# Altium footprint library CL05A475MO5NUNC.PcbLib: 1 footprints
Each footprint in its own frame and in the unit in brackets; x right, y up, seen from the top. Pads: shape width x height; smd on the part's side, far side on the other; paste and mask are expansions set on the pad; w line width, h text height; cw(c..) or ccw(c..) is an arc to the next point about the centre after c.
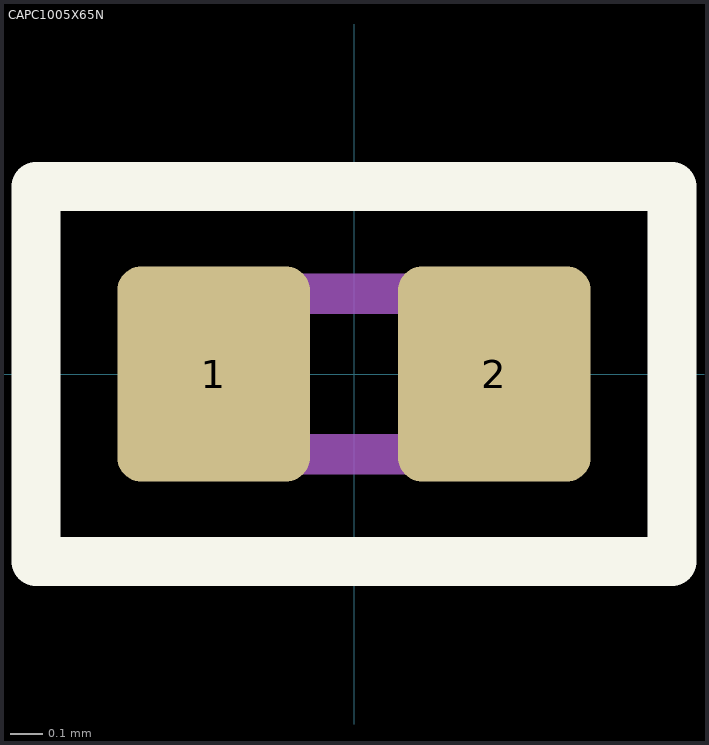
[diagram p0: the footprint, top view; thin cyan lines are the x and y axes]

## CAPC1005X65N [mm]
pads (2):
  rrect25% 0.6x0.67 smd: 1(-0.437,0) 2(0.437,0)
Top Overlay:
  lines w0.152: -0.991,-0.584 -0.991,0.584 0.991,0.584 0.991,-0.584 -0.991,-0.584
Top 3D Body:
  lines w0.127: -0.5,-0.25 0.5,-0.25 0.5,0.25 -0.5,0.25 -0.5,-0.25
Top Courtyard:
  lines w0.05: -0.987,-0.585 -0.987,0.585 0.987,0.585 0.987,-0.585 -0.987,-0.585
3D body "step_temp.STEP": height 0.65, standoff 0, extent -0.5,-0.25 0.5,0.25